# Altium footprint library NewSmartwatch.PcbLib: 41 footprints (part 2 of 3)
Each footprint in its own frame and in the unit in brackets; x right, y up, seen from the top. Pads: shape width x height; smd on the part's side, far side on the other; paste and mask are expansions set on the pad; w line width, h text height; cw(c..) or ccw(c..) is an arc to the next point about the centre after c.
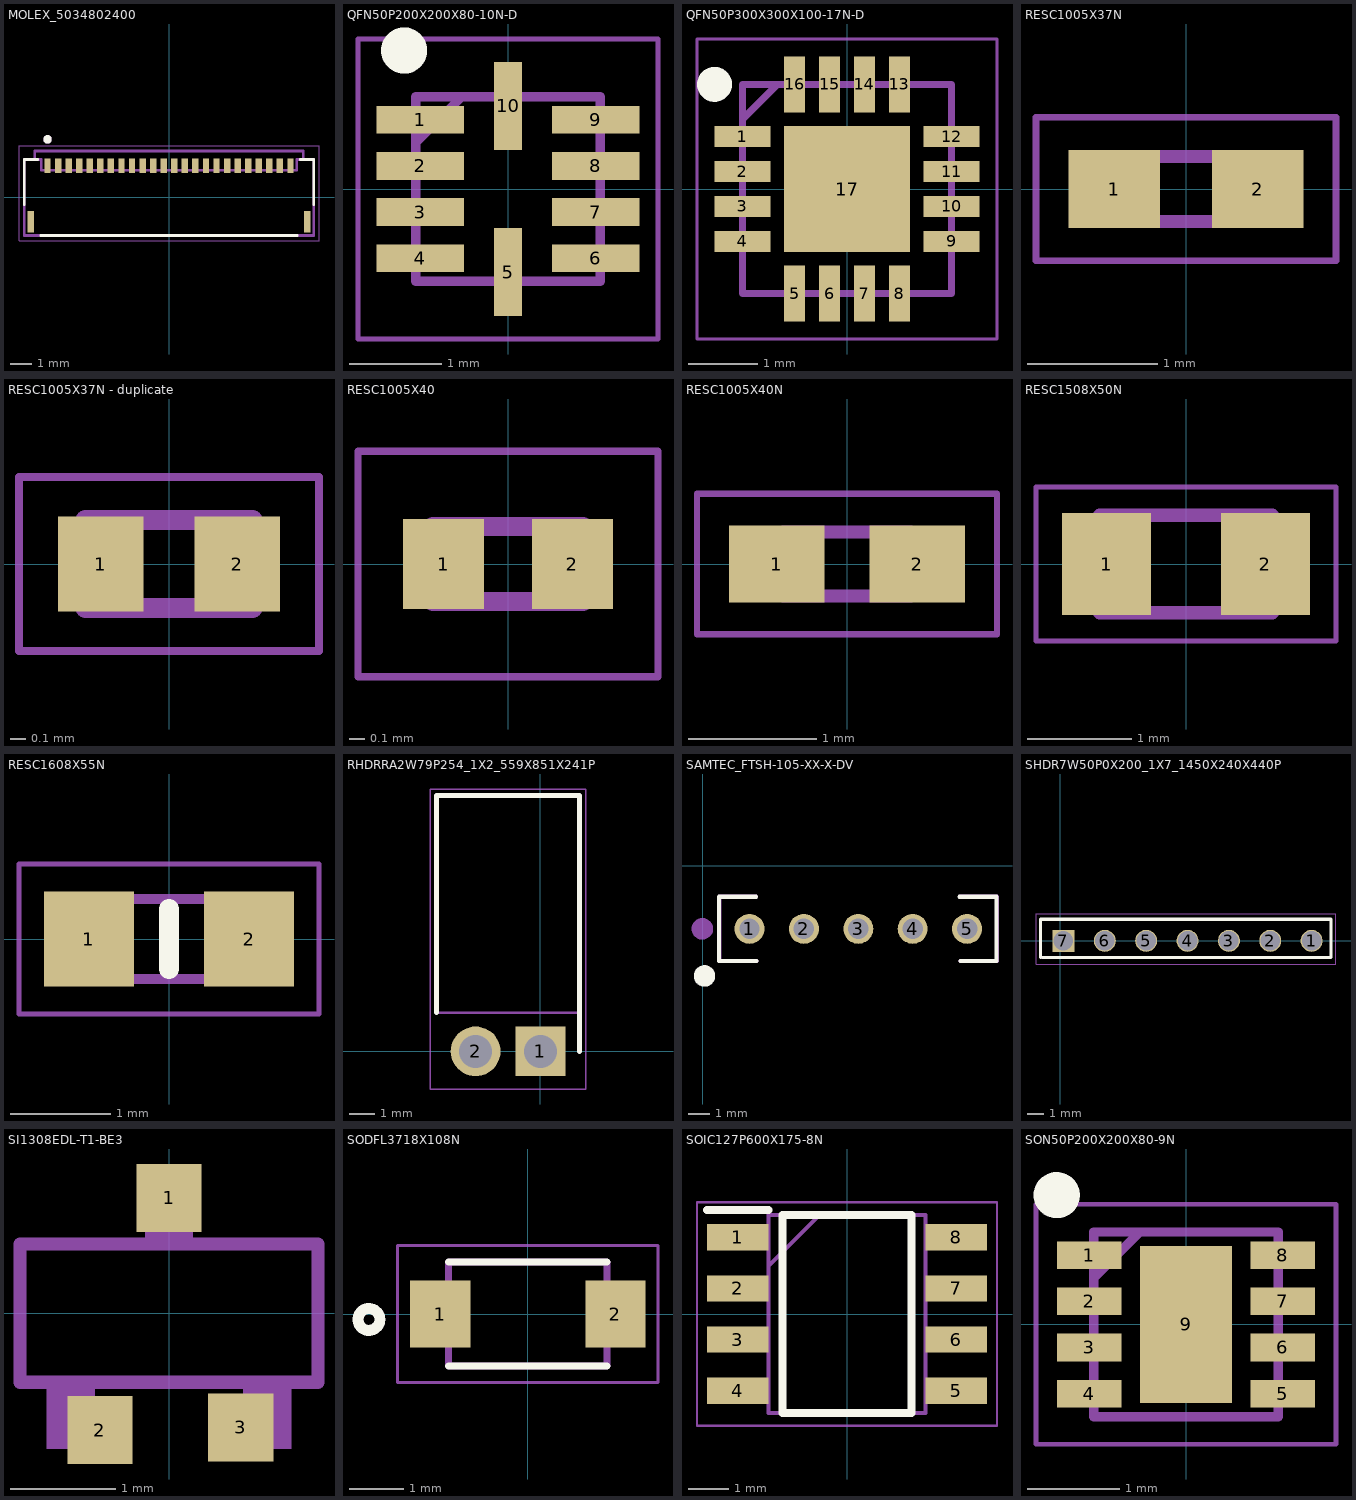
[diagram p1: the footprints below, top view; thin cyan lines are the x and y axes]

## MOLEX_5034802400 [mm]
height 1.87
pads (26):
  rect 0.3x0.7 smd mask+0.05: 1(-5.75,1.5) 2(-5.25,1.5) 3(-4.75,1.5) 4(-4.25,1.5) 5(-3.75,1.5) 6(-3.25,1.5) 7(-2.75,1.5) 8(-2.25,1.5) 9(-1.75,1.5) 10(-1.25,1.5) 11(-0.75,1.5) 12(-0.25,1.5) 13(0.25,1.5) 14(0.75,1.5) 15(1.25,1.5) 16(1.75,1.5) 17(2.25,1.5) 18(2.75,1.5) 19(3.25,1.5) 20(3.75,1.5) 21(4.25,1.5) 22(4.75,1.5) 23(5.25,1.5) 24(5.75,1.5)
  rect 0.3x1 smd: 25(-6.54,-1.15) 26(6.54,-1.15)
Top Overlay:
  circle w0.2: c-5.75,2.75 r0.1
  lines w0.127: -6.85,-0.33 -6.85,1.8 -6.215,1.8 ; -6.07,-1.8 6.07,-1.8 ; 6.215,1.8 6.85,1.8 6.85,-0.33
Mechanical 13:
  circle w0.2: c-5.75,2.75 r0.1
  lines w0.127: -6.35,1.8 -6.35,2.2 6.35,2.2 6.35,1.8 ; -6.35,1.8 -6.05,1.8 -6.05,1.29 6.05,1.29 6.05,1.8 6.35,1.8 ; -6.35,1.8 -6.85,1.8 -6.85,-1.8 6.85,-1.8 6.85,1.8 6.35,1.8
Mechanical 15:
  lines w0.05: -7.1,-2.05 -7.1,2.45 7.1,2.45 7.1,-2.05 -7.1,-2.05
3D body "2-1734839-4--3DModel-STEP-78480.STEP": height 1, standoff -1.05, extent -8.664,-3.287 8.766,1.823

## QFN50P200X200X80-10N-D [mm]
pads (10):
  rect 0.95x0.3 smd: 1(-0.95,0.75) 2(-0.95,0.25) 3(-0.95,-0.25) 4(-0.95,-0.75) 6(0.95,-0.75) 7(0.95,-0.25) 8(0.95,0.25) 9(0.95,0.75)
  rect 0.3x0.95 smd: 5(0,-0.9) 10(0,0.9)
Top Overlay:
  circle w0.25: c-1.125,1.5 r0.125
Mechanical 13:
  lines w0.1: -1,0.5 -0.5,1 ; -1,-1 -1,1 1,1 1,-1 -1,-1
Mechanical 15:
  lines w0.05: -1.625,-1.625 -1.625,1.625 1.625,1.625 1.625,-1.625 -1.625,-1.625
3D body "DRV2603RUNT.stp": height 0.8, standoff 0, extent -1,-1 1,1

## QFN50P300X300X100-17N-D [mm]
pads (17):
  rect 0.8x0.3 smd: 1(-1.5,0.75) 2(-1.5,0.25) 3(-1.5,-0.25) 4(-1.5,-0.75) 9(1.5,-0.75) 10(1.5,-0.25) 11(1.5,0.25) 12(1.5,0.75)
  rect 0.3x0.8 smd: 5(-0.75,-1.5) 6(-0.25,-1.5) 7(0.25,-1.5) 8(0.75,-1.5) 13(0.75,1.5) 14(0.25,1.5) 15(-0.25,1.5) 16(-0.75,1.5)
  rect 1.8x1.8 smd: 17(0,0)
Top Overlay:
  circle w0.25: c-1.9,1.5 r0.125
Mechanical 13:
  lines w0.1: -1.5,1 -1,1.5 ; -1.5,-1.5 1.5,-1.5 1.5,1.5 -1.5,1.5 -1.5,-1.5
Mechanical 15:
  lines w0.05: -2.15,-2.15 2.15,-2.15 2.15,2.15 -2.15,2.15 -2.15,-2.15
3D body "BQ24075TRGTR.stp": height 1, standoff 0, extent -1.55,-1.55 1.55,1.55

## RESC1005X37N [mm]
pads (2):
  rect 0.7x0.6 smd: 1(-0.55,0) 2(0.55,0)
Mechanical 13:
  lines w0.1: -0.5,-0.25 0.5,-0.25 0.5,0.25 -0.5,0.25 -0.5,-0.25
Mechanical 15:
  lines w0.05: -1.15,-0.55 1.15,-0.55 1.15,0.55 -1.15,0.55 -1.15,-0.55
3D body "MCS0402MD1002BE100.stp": height 0.32, standoff 0, extent -0.5,-0.25 0.5,0.25

## RESC1005X37N - duplicate [mm]
pads (2):
  rect 0.54x0.6 smd: 1(-0.432,0) 2(0.432,0)
Mechanical 13:
  lines w0.127: -0.53,-0.28 -0.53,0.28 0.53,0.28 0.53,-0.28 -0.53,-0.28
Mechanical 15:
  lines w0.05: -0.95,-0.55 -0.95,0.55 0.95,0.55 0.95,-0.55 -0.95,-0.55

## RESC1005X40 [mm]
pads (2):
  rect 0.54x0.6 smd: 1(-0.43,0) 2(0.43,0)
Mechanical 13:
  region: 0.5,-0.25 0.25,-0.25 0.25,0.25 0.5,0.25
  region: -0.25,-0.251 -0.501,-0.251 -0.501,0.25 -0.25,0.25
  lines w0.127: -0.5,-0.25 -0.5,0.25 0.5,0.25 0.5,-0.25 -0.5,-0.25
Mechanical 15:
  lines w0.05: -1,-0.75 -1,0.75 1,0.75 1,-0.75 -1,-0.75

## RESC1005X40N [mm]
pads (2):
  rect 0.75x0.6 smd: 1(-0.55,0) 2(0.55,0)
Mechanical 13:
  lines w0.1: -0.5,-0.25 0.5,-0.25 0.5,0.25 -0.5,0.25 -0.5,-0.25
Mechanical 15:
  lines w0.05: -1.175,-0.55 1.175,-0.55 1.175,0.55 -1.175,0.55 -1.175,-0.55
3D body "CR0402-JW-222GLF.stp": height 0.35, standoff 0, extent -0.5,-0.25 0.5,0.25

## RESC1508X50N [mm]
pads (2):
  rect 0.86x0.98 smd: 1(-0.765,0) 2(0.765,0)
Mechanical 13:
  lines w0.127: -0.83,-0.47 0.83,-0.47 0.83,0.47 -0.83,0.47 -0.83,-0.47
Mechanical 15:
  lines w0.05: -1.444,-0.74 1.444,-0.74 1.444,0.74 -1.444,0.74 -1.444,-0.74

## RESC1608X55N [mm]
pads (2):
  rect 0.9x0.95 smd: 1(-0.8,0) 2(0.8,0)
Top Overlay:
  lines w0.2: 0,-0.3 0,0.3
Mechanical 13:
  lines w0.1: -0.8,-0.4 0.8,-0.4 0.8,0.4 -0.8,0.4 -0.8,-0.4
Mechanical 15:
  lines w0.05: -1.5,-0.75 1.5,-0.75 1.5,0.75 -1.5,0.75 -1.5,-0.75
3D body "RK73B1JTTDD154J.stp": height 0.55, standoff 0, extent -0.8,-0.4 0.8,0.4

## RHDRRA2W79P254_1X2_559X851X241P [mm]
pads (2):
  rect 1.95x1.95 hole 1.3: 1(0,0)
  round 1.95 hole 1.3: 2(-2.54,0)
Top Overlay:
  lines w0.2: -4.065,1.52 -4.065,10.03 1.525,10.03 1.525,0
Mechanical 13:
  lines w0.1: -4.065,1.52 -4.065,10.03 1.525,10.03 1.525,1.52 -4.065,1.52
Mechanical 15:
  lines w0.05: -4.315,-1.475 -4.315,10.28 1.775,10.28 1.775,-1.475 -4.315,-1.475
3D body "SSW-102-02-T-S-RA-001.stp": height 2.41, standoff -2.54, extent -4.065,-0.395 1.525,10.03

## SAMTEC_FTSH-105-XX-X-DV [mm]
pads (5):
  round 1.4 hole 0.95: 1(2.175,-2.95) 2(4.715,-2.95) 3(7.255,-2.95) 4(9.795,-2.95) 5(12.335,-2.95)
Top Overlay:
  circle w0.5: c0.075,-5.15 r0.25
  lines w0.2: 2.48,-1.45 0.755,-1.45 0.755,-4.45 2.505,-4.45 ; 11.98,-1.45 13.705,-1.45 13.705,-4.45 12.03,-4.45
Mechanical 29:
  circle w0.5: c-0.025,-2.95 r0.25
  lines w0.2: 2.48,-1.45 0.78,-1.45 0.78,-4.45 2.505,-4.45 ; 12.005,-1.45 13.73,-1.45 13.73,-4.45 12.03,-4.45
  text ".Designator" at 8.947,-3.7 h1

## SHDR7W50P0X200_1X7_1450X240X440P [mm]
pads (7):
  round 1.35 hole 1.2: 1(15.427,0) 2(12.887,0) 3(10.347,0) 4(7.807,0) 5(5.267,0) 6(2.727,0)
  rect 1.35x1.35 hole 1.2: 7(0.187,0)
Top Overlay:
  lines w0.2: -1.225,-1.012 -1.225,1.325 16.625,1.325 16.625,0.775 16.625,0.475 16.625,-0.275 16.625,-0.575 16.625,-1.019 -1.137,-1.019
Mechanical 13:
  lines w0.1: -1.225,1.175 -1.225,-0.966 -1.133,-1.058 ; -1.225,1.3 16.625,1.3 16.625,0.7 16.625,-0.5 16.625,-1.019 -1.133,-1.054
Mechanical 15:
  lines w0.05: 7.788,1.675 16.925,1.675 16.925,0.875 16.925,-0.575 16.925,-1.45 -1.5,-1.45 -1.5,1.675 2.312,1.675 9.938,1.675

## SI1308EDL-T1-BE3 [mil]
pads (3):
  rect 24.49x25.49 smd: 1(0,43.31) 2(-26,-44) 3(27,-43)
Mechanical 13:
  region: 9,28 -9,28 -9,51 9,51
  region: 46,-51 28,-51 28,-28 46,-28
  region: -28,-51 -46,-51 -46,-28 -28,-28
  lines w5: -56,-26 -56,26 56,26 56,-26 -56,-26
3D body "SI1308EDL-T1-BE3--3DModel-STEP-56544.STEP": height 43.31, standoff 0, extent -39,-39 39.74,43.68

## SODFL3718X108N [mm]
pads (2):
  rect 1.1x1.22 smd: 1(-1.6,0) 2(1.6,0)
Top Overlay:
  circle w0.2: c-2.9,-0.1 r0.2
  lines w0.127: -1.45,-0.95 1.45,-0.95 ; -1.45,0.95 1.45,0.95
Mechanical 13:
  lines w0.127: -1.45,-0.95 1.45,-0.95 1.45,0.95 -1.45,0.95 -1.45,-0.95
Mechanical 15:
  lines w0.05: -2.377,-1.25 -2.377,1.25 2.377,1.25 2.377,-1.25 -2.377,-1.25

## SOIC127P600X175-8N [mm]
pads (8):
  rect 1.525x0.65 smd: 1(-2.712,1.905) 2(-2.712,0.635) 3(-2.712,-0.635) 4(-2.712,-1.905) 5(2.712,-1.905) 6(2.712,-0.635) 7(2.712,0.635) 8(2.712,1.905)
Top Overlay:
  lines w0.2: -3.475,2.58 -1.95,2.58 ; -1.6,-2.462 1.6,-2.462 1.6,2.462 -1.6,2.462 -1.6,-2.462
Mechanical 13:
  lines w0.1: -1.95,1.192 -0.68,2.462 ; -1.95,-2.462 1.95,-2.462 1.95,2.462 -1.95,2.462 -1.95,-2.462
Mechanical 15:
  lines w0.05: -3.725,-2.775 3.725,-2.775 3.725,2.775 -3.725,2.775 -3.725,-2.775
3D body "AT25SF041B-SSHD-B.stp": height 1.75, standoff 0, extent -2.997,-2.462 2.997,2.462

## SON50P200X200X80-9N [mm]
pads (9):
  rect 0.7x0.3 smd: 1(-1.05,0.75) 2(-1.05,0.25) 3(-1.05,-0.25) 4(-1.05,-0.75) 5(1.05,-0.75) 6(1.05,-0.25) 7(1.05,0.25) 8(1.05,0.75)
  rect 1x1.7 smd: 9(0,0)
Top Overlay:
  circle w0.25: c-1.4,1.4 r0.125
Mechanical 13:
  lines w0.1: -1,0.5 -0.5,1 ; -1,-1 -1,1 1,1 1,-1 -1,-1
Mechanical 15:
  lines w0.05: -1.625,-1.3 -1.625,1.3 1.625,1.3 1.625,-1.3 -1.625,-1.3
3D body "TPS7A2112PQWDSGRQ1.stp": height 0.77, standoff 0, extent -1,-1 1,1